# Altium schematic symbol library MAX26404AFOAY&plus_.SchLib: 2 symbols
Pins are listed as number, name and electrical type; pins without a type are passive.

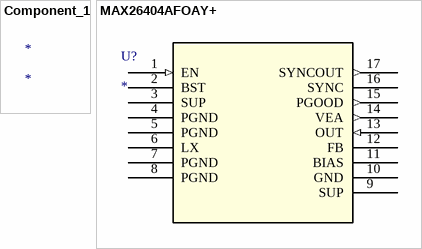
[diagram p0: symbols Component_1 to MAX26404AFOAY+]

## Component_1
designator *

## MAX26404AFOAY+
designator U?
No Description Available; Mfr_Name: Analog Devices Inc; RefDes: RefDes; Type: Type
footprint 21-100343_90-100129_ADI
pins: 1 EN (in), 2 BST (power), 3 SUP (power), 4 PGND (power), 5 PGND (power), 6 LX, 7 PGND (power), 8 PGND (power), 9 SUP (power), 10 GND (power), 11 BIAS (power), 12 FB, 13 OUT (in), 14 VEA (out), 15 PGOOD (out), 16 SYNC, 17 SYNCOUT (out)